# Altium footprint library Main Control Board.PcbLib: 11 footprints
Each footprint in its own frame and in the unit in brackets; x right, y up, seen from the top. Pads: shape width x height; smd on the part's side, far side on the other; paste and mask are expansions set on the pad; w line width, h text height; cw(c..) or ccw(c..) is an arc to the next point about the centre after c.
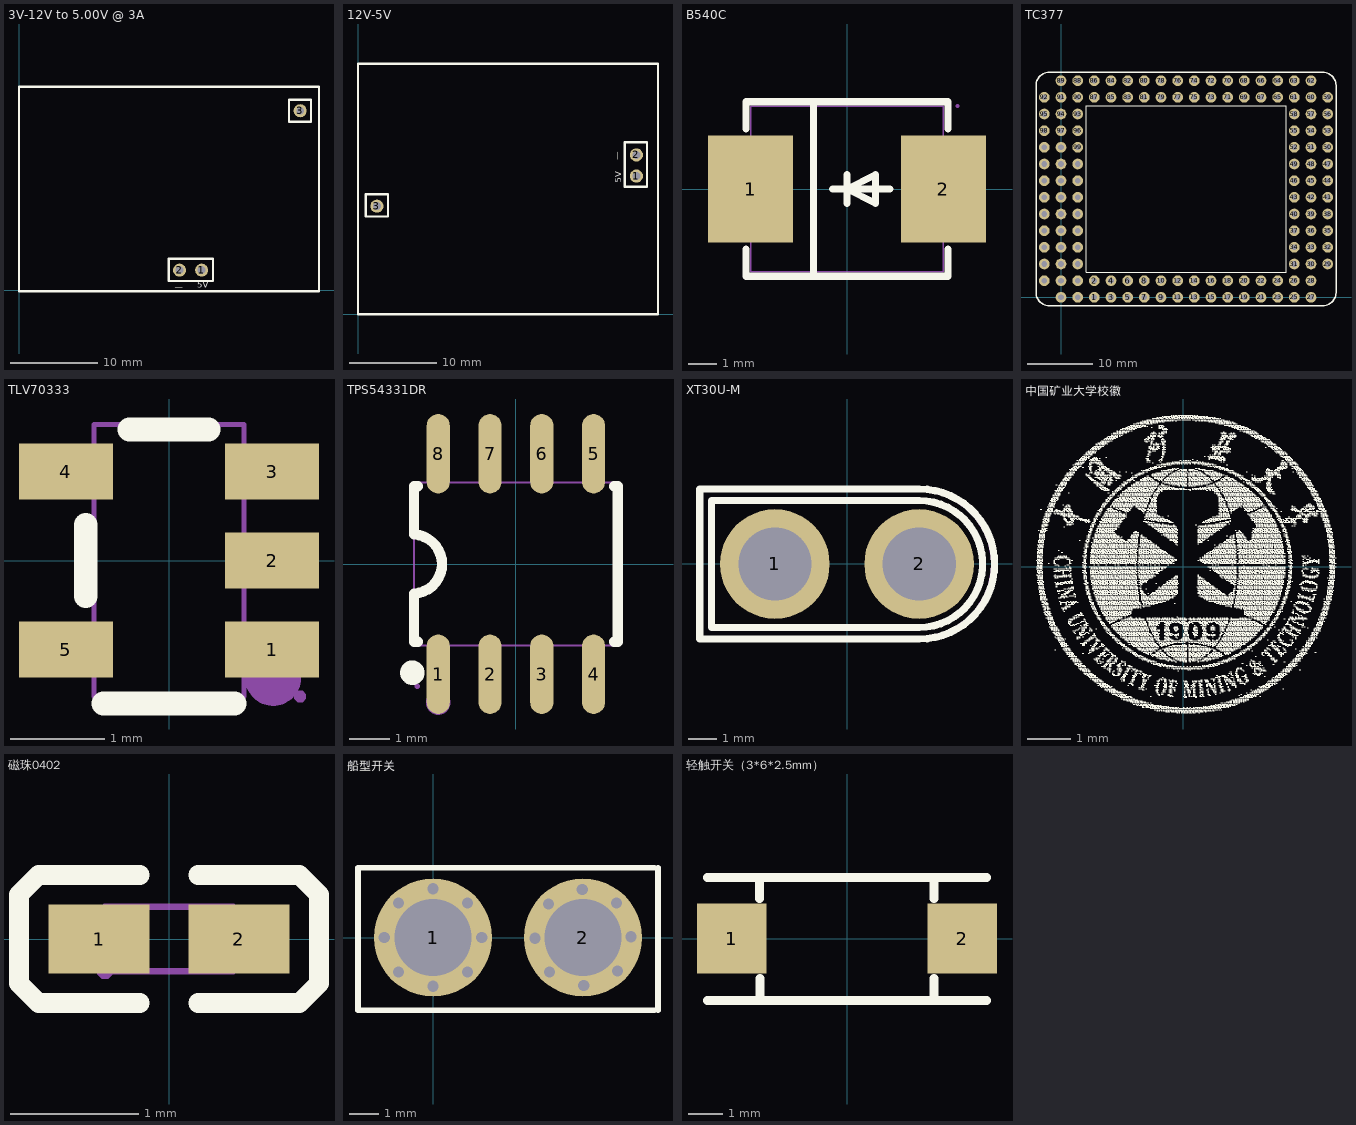
[diagram p0: the footprints below, top view; thin cyan lines are the x and y axes]

## 3V-12V to 5.00V @ 3A [mm]
pads (3):
  round 1.5 hole 0.9 mask+0.05: 1(20.955,2.286) 2(18.415,2.286) 3(32.258,20.574)
Top Overlay:
  lines w0.254: 0,-0.127 34.417,-0.127 34.417,23.317 0,23.317 0,-0.127 ; 17.17,1.041 22.25,1.041 22.25,3.581 17.17,3.581 17.17,1.041 ; 30.963,19.304 30.963,21.844 33.503,21.844 33.503,19.304 30.963,19.304
  text "—" at 18.847,0.711 h1.2
  text "5V" at 20.472,0.051 h1.2

## 12V-5V [mm]
pads (3):
  round 1.5 hole 0.9 mask+0.05: 1(31.75,15.748) 2(31.75,18.161) 3(2.159,12.319)
Top Overlay:
  lines w0.254: 0,0 0,28.55 34.214,28.55 34.214,0 0,0 ; 0.889,11.125 3.429,11.125 3.429,13.665 0.889,13.665 0.889,11.125 ; 30.429,14.529 30.429,19.609 32.969,19.609 32.969,14.529 30.429,14.529
  text "5V" at 30.226,14.986 h1.2
  text "—" at 30.099,17.526 h1.2

## B540C [mm]
pads (2):
  rect 3.03x3.82 smd paste+0 mask+0.051: 1(-3.435,0) 2(3.435,0)
Top Overlay:
  lines w0.254: -3.6,-2.141 -3.6,-3.11 3.6,-3.11 3.6,-2.141 ; -3.6,2.141 -3.6,3.11 3.6,3.11 3.6,2.141 ; -1.192,-3.11 -1.192,3.11 ; -0.508,0 1.524,0 ; 0,0.508 0,-0.508 0,0 ; 0,0 1.016,-0.508 1.016,0.508 0,0
Mechanical 6:
  region: -4.33,0.254 -2.552,0.254 -2.552,-0.254 -4.33,-0.254
  region: 3.181,-0.895 3.181,0.883 3.689,0.883 3.689,-0.895
  region: 2.54,0.254 4.318,0.254 4.318,-0.254 2.54,-0.254
Mechanical 15:
  region: 4.003,2.952 4.003,2.977 3.968,3.012 3.918,3.012 3.883,2.977 3.883,2.952 3.883,2.927 3.918,2.892 3.968,2.892 4.003,2.927 4.003,2.952
  region: 2.928,1.475 3.943,1.475 3.943,-1.475 2.928,-1.475
  region: -2.928,-1.475 -3.943,-1.475 -3.943,1.475 -2.928,1.475
  lines w0.051: -3.428,-2.952 3.428,-2.952 3.428,2.952 -3.428,2.952 -3.428,-2.952

## TC377 [mm] "单片机核心板封装库"
pads (127):
  round 1.65 hole 0.88: 1(5.08,0) 2(5.08,2.54) 3(7.62,0) 4(7.62,2.54) 5(10.16,0) 6(10.16,2.54) 7(12.7,0) 8(12.7,2.54) 9(15.24,0) 10(15.24,2.54) 11(17.78,0) 12(17.78,2.54) 13(20.32,0) 14(20.32,2.54) 15(22.86,0) 16(22.86,2.54) 17(25.4,0) 18(25.4,2.54) 19(27.94,0) 20(27.94,2.54) 21(30.48,0) 22(30.48,2.54) 23(33.02,0) 24(33.02,2.54) 25(35.56,0) 26(35.56,2.54) 27(38.1,0) 28(38.1,2.54) 30(38.1,5.08) 31(35.56,5.08) 33(38.1,7.62) 34(35.56,7.62) 36(38.1,10.16) 37(35.56,10.16) 39(38.1,12.7) 40(35.56,12.7) 42(38.1,15.24) 43(35.56,15.24) 45(38.1,17.78) 46(35.56,17.78) 48(38.1,20.32) 49(35.56,20.32) 51(38.1,22.86) 52(35.56,22.86) 54(38.1,25.4) 55(35.56,25.4) 57(38.1,27.94) 58(35.56,27.94) 60(38.1,30.48) 61(35.56,30.48) 62(38.1,33.02) 63(35.56,33.02) 64(33.02,33.02) 65(33.02,30.48) 66(30.48,33.02) 67(30.48,30.48) 68(27.94,33.02) 69(27.94,30.48) 70(25.4,33.02) 71(25.4,30.48) 72(22.86,33.02) 73(22.86,30.48) 74(20.32,33.02) 75(20.32,30.48) 76(17.78,33.02) 77(17.78,30.48) 78(15.24,33.02) 79(15.24,30.48) 80(12.7,33.02) 81(12.7,30.48) 82(10.16,33.02) 83(10.16,30.48) 84(7.62,33.02) 85(7.62,30.48) 86(5.08,33.02) 87(5.08,30.48) 88(2.54,33.02) 89(0,33.02) 90(2.54,30.48) 91(0,30.48) 93(2.54,27.94) 94(0,27.94) 96(2.54,25.4) 97(0,25.4) 99(2.54,22.86) 100(0,22.86) 102(2.54,20.32) 103(0,20.32) 105(2.54,17.78) 106(0,17.78) 108(2.54,15.24) 109(0,15.24) 111(2.54,12.7) 112(0,12.7) 114(2.54,10.16) 115(0,10.16) 117(2.54,7.62) 118(0,7.62) 120(2.54,5.08) 121(0,5.08) 123(2.54,2.54) 124(0,2.54) 126(2.54,0) 127(0,0)
  round 1.65 hole 0.88 mask+0.102: 29(40.64,5.08) 32(40.64,7.62) 35(40.64,10.16) 38(40.64,12.7) 41(40.64,15.24) 44(40.64,17.78) 47(40.64,20.32) 50(40.64,22.86) 53(40.64,25.4) 56(40.64,27.94) 59(40.64,30.48) 92(-2.54,30.48) 95(-2.54,27.94) 98(-2.54,25.4) 101(-2.54,22.86) 104(-2.54,20.32) 107(-2.54,17.78) 110(-2.54,15.24) 113(-2.54,12.7) 116(-2.54,10.16) 119(-2.54,7.62) 122(-2.54,5.08) 125(-2.54,2.54)
Top Overlay:
  lines w0.15: 3.81,3.8 34.29,3.8 34.29,29.185 3.9,29.185 ; 3.81,3.861 3.81,29.185
  lines w0.2: -3.81,0.596 -3.81,32.29 cw(c-1.81,32.29) -1.81,34.29 39.91,34.29 cw(c39.91,32.29) 41.91,32.29 41.91,0.635 ; -3.81,0.73 ccw(c-1.81,0.73) -1.81,-1.27 40.132,-1.27 ; 39.91,-1.27 ccw(c39.91,0.73) 41.91,0.73

## TLV70333 [mm]
pads (5):
  rect 1.001x0.599 smd mask+0.05: 1(1.1,-0.95) 2(1.1,0) 3(1.1,0.95) 4(-1.1,0.95) 5(-1.1,-0.95)
Top Overlay:
  lines w0.254: -0.889,-0.381 -0.889,0.381 ; -0.699,-1.524 0.699,-1.524 ; -0.422,1.397 0.422,1.397
Mechanical 6:
  circle w0.3: c1.11,-1.25 r0.15
Mechanical 15:
  region: 1.46,-1.45 1.46,-1.425 1.425,-1.389 1.374,-1.389 1.339,-1.425 1.339,-1.45 1.339,-1.476 1.374,-1.511 1.425,-1.511 1.46,-1.476 1.46,-1.45
  region: -0.95,-1.151 -1.4,-1.151 -1.4,-0.749 -0.95,-0.749
  region: -0.79,-1.151 -0.96,-1.151 -0.96,-0.749 -0.79,-0.749
  region: -0.95,0.749 -1.4,0.749 -1.4,1.151 -0.95,1.151
  region: -0.79,0.749 -0.96,0.749 -0.96,1.151 -0.79,1.151
  region: 1.4,-1.151 0.95,-1.151 0.95,-0.749 1.4,-0.749
  region: 0.96,-1.151 0.79,-1.151 0.79,-0.749 0.96,-0.749
  region: 1.4,0.749 0.95,0.749 0.95,1.151 1.4,1.151
  region: 0.96,0.749 0.79,0.749 0.79,1.151 0.96,1.151
  region: 1.4,-0.201 0.95,-0.201 0.95,0.201 1.4,0.201
  region: 0.96,-0.201 0.79,-0.201 0.79,0.201 0.96,0.201
  lines w0.051: -0.8,-1.45 0.8,-1.45 0.8,1.45 -0.8,1.45 -0.8,-1.45

## TPS54331DR [mil]
pads (8):
  oval 22.38x76.78 smd mask+2: 1(-75,-106.5) 2(-25,-106.5) 3(25,-106.5) 4(75,-106.5) 5(75,106.5) 6(25,106.5) 7(-25,106.5) 8(-75,106.5)
Top Overlay:
  circle w11.81: c-100,-105 r5.91
  lines w10: -98.43,-28.61 ccw(c-99.99,0) -98.23,28.59 ; -98.42,-28.61 -98.42,-59.05 -98.42,-75 -94.83,-75 ; -98.42,28.59 -98.42,59.05 -98.42,75 -94.83,75 ; 94.83,-75 98.42,-75 98.42,-59.05 98.42,59.05 98.42,75 94.83,75
Mechanical 6:
  circle w11.81: c-75,-133.86 r5.91
Mechanical 15:
  region: -92.92,-118.11 -92.92,-117.13 -94.3,-115.75 -96.26,-115.75 -97.64,-117.13 -97.64,-118.11 -97.64,-119.09 -96.26,-120.47 -94.3,-120.47 -92.92,-119.09 -92.92,-118.11
  region: 66.93,76.38 66.93,85.63 83.07,85.63 83.07,76.38
  region: 66.93,85.24 66.93,118.11 83.07,118.11 83.07,85.24
  region: 16.93,76.38 16.93,85.63 33.07,85.63 33.07,76.38
  region: 16.93,85.24 16.93,118.11 33.07,118.11 33.07,85.24
  region: -33.07,76.38 -33.07,85.63 -16.93,85.63 -16.93,76.38
  region: -33.07,85.24 -33.07,118.11 -16.93,118.11 -16.93,85.24
  region: -83.07,76.38 -83.07,85.63 -66.93,85.63 -66.93,76.38
  region: -83.07,85.24 -83.07,118.11 -66.93,118.11 -66.93,85.24
  region: 66.93,-85.63 66.93,-76.38 83.07,-76.38 83.07,-85.63
  region: 66.93,-118.11 66.93,-85.24 83.07,-85.24 83.07,-118.11
  region: 16.93,-85.63 16.93,-76.38 33.07,-76.38 33.07,-85.63
  region: 16.93,-118.11 16.93,-85.24 33.07,-85.24 33.07,-118.11
  region: -33.07,-85.63 -33.07,-76.38 -16.93,-76.38 -16.93,-85.63
  region: -33.07,-118.11 -33.07,-85.24 -16.93,-85.24 -16.93,-118.11
  region: -83.07,-85.63 -83.07,-76.38 -66.93,-76.38 -66.93,-85.63
  region: -83.07,-118.11 -83.07,-85.24 -66.93,-85.24 -66.93,-118.11
  lines w2: -98.42,-78.74 -98.42,78.74 98.42,78.74 98.42,-78.74 -98.42,-78.74

## XT30U-M [mm]
pads (2):
  round 3.8 hole 2.54 mask+0.05: 1(-2.5,0) 2(2.5,0)
Top Overlay:
  lines w0.254: 2.5,2.2 cw(c2.5,0) 2.501,-2.2 ; 2.5,2.2 2.5,2.2 ; 2.5,2.2 2,2.2 -4.7,2.2 -4.7,-2.2 2,-2.2 2.501,-2.2 ; 2.501,-2.2 2.501,-2.2 ; -5.1,-2.6 2.514,-2.6 ccw(c2.514,0) 2.514,2.6 -5.1,2.6 -5.1,-2.6
Mechanical 6:
  region: 2.5,2.7 -5.1,2.7 -5.2,2.6 -5.2,-2.6 -5.1,-2.7 2.5,-2.7 2.5,-2.5 -5,-2.5 -5,2.5 2.5,2.5
  region: 2.5,-2.5 2.745,-2.488 3.226,-2.392 3.678,-2.205 4.086,-1.933 4.432,-1.586 4.705,-1.178 4.892,-0.726 4.988,-0.245 5,0 5.2,0 5.2,-0.177 5.154,-0.528 5.062,-0.87 4.927,-1.197 4.75,-1.503 4.534,-1.784 4.284,-2.034 4.003,-2.25 3.697,-2.427 3.37,-2.562 3.028,-2.654 2.677,-2.7 2.5,-2.7
  region: 5,0 4.988,0.245 4.892,0.726 4.705,1.178 4.432,1.586 4.086,1.933 3.678,2.205 3.226,2.392 2.745,2.488 2.5,2.5 2.5,2.7 2.677,2.7 3.028,2.654 3.37,2.562 3.697,2.427 4.003,2.25 4.284,2.034 4.534,1.784 4.75,1.503 4.927,1.197 5.062,0.87 5.154,0.528 5.2,0.177 5.2,0
Mechanical 15:
  region: -1.5,0 -1.5,0.132 -1.568,0.386 -1.7,0.614 -1.886,0.8 -2.114,0.932 -2.368,1 -2.632,1 -2.886,0.932 -3.114,0.8 -3.3,0.614 -3.432,0.386 -3.5,0.132 -3.5,0 -3.5,-0.132 -3.432,-0.386 -3.3,-0.614 -3.114,-0.8 -2.886,-0.932 -2.632,-1 -2.368,-1 -2.114,-0.932 -1.886,-0.8 -1.7,-0.614 -1.568,-0.386 -1.5,-0.132 -1.5,0
  region: 3.5,0 3.5,0.132 3.432,0.386 3.3,0.614 3.114,0.8 2.886,0.932 2.632,1 2.368,1 2.114,0.932 1.886,0.8 1.7,0.614 1.568,0.386 1.5,0.132 1.5,0 1.5,-0.132 1.568,-0.386 1.7,-0.614 1.886,-0.8 2.114,-0.932 2.368,-1 2.632,-1 2.886,-0.932 3.114,-0.8 3.3,-0.614 3.432,-0.386 3.5,-0.132 3.5,0
  region: -5.04,-2.6 -5.04,-2.575 -5.075,-2.54 -5.125,-2.54 -5.16,-2.575 -5.16,-2.6 -5.16,-2.625 -5.125,-2.66 -5.075,-2.66 -5.04,-2.625 -5.04,-2.6
  lines w0.051: -5.1,-2.6 2.514,-2.6 ccw(c2.514,0) 5.114,0 ccw(c2.514,0) 2.514,2.6 -5.08,2.54 ccw(c-5.08,2.52) -5.1,2.52 -5.1,-2.6

## 中国矿业大学校徽 [mm]
Top Overlay:
  drawing of 8063 lines, arcs and shapes, not listed

## 磁珠0402 [mm]
pads (2):
  rect 0.79x0.54 smd mask+0.051: 1(-0.545,0) 2(0.545,0)
Top Overlay:
  lines w0.152: -0.226,-0.499 -1.016,-0.499 -1.169,-0.346 -1.169,0.346 -1.016,0.499 -0.226,0.499 ; 0.226,-0.499 1.016,-0.499 1.169,-0.346 1.169,0.346 1.016,0.499 0.226,0.499
Top Paste:
  region: 0.135,-0.086 0.135,0.086 0.404,0.27 0.9,0.27 0.94,0.23 0.94,-0.23 0.9,-0.27 0.404,-0.27
  region: -0.135,-0.086 -0.135,0.086 -0.404,0.27 -0.9,0.27 -0.94,0.23 -0.94,-0.23 -0.9,-0.27 -0.404,-0.27
Mechanical 15:
  region: -0.44,-0.25 -0.44,-0.225 -0.475,-0.19 -0.525,-0.19 -0.56,-0.225 -0.56,-0.25 -0.56,-0.275 -0.525,-0.31 -0.475,-0.31 -0.44,-0.275 -0.44,-0.25
  region: -0.5,-0.25 -0.5,0.25 -0.25,0.25 -0.25,-0.25
  region: 0.5,-0.25 0.5,0.25 0.25,0.25 0.25,-0.25
  lines w0.051: -0.5,-0.25 -0.5,0.25 0.5,0.25 0.5,-0.25 -0.5,-0.25

## 船型开关 [mm]
pads (2):
  round 4 hole 2.6: 1(0,0) 2(5.08,0)
via 1.167,1.167 diameter 0.508 hole 0.381
via 1.651,0 diameter 0.508 hole 0.381
via 1.167,-1.167 diameter 0.508 hole 0.381
via 0,-1.651 diameter 0.508 hole 0.381
via -1.167,-1.167 diameter 0.508 hole 0.381
via -1.651,0 diameter 0.508 hole 0.381
via -1.167,1.167 diameter 0.508 hole 0.381
via 0,1.651 diameter 0.508 hole 0.381
via 5.055,1.626 diameter 0.508 hole 0.381
via 5.055,1.626 diameter 0.508 hole 0.381
via 3.913,1.132 diameter 0.508 hole 0.381
via 3.454,-0.025 diameter 0.508 hole 0.381
via 3.948,-1.167 diameter 0.508 hole 0.381
via 5.105,-1.626 diameter 0.508 hole 0.381
via 6.247,-1.132 diameter 0.508 hole 0.381
via 6.706,0.025 diameter 0.508 hole 0.381
via 6.212,1.167 diameter 0.508 hole 0.381
Top Overlay:
  lines w0.2: 7.493,-2.464 5.766,-2.464 -0.076,-2.464 -2.54,-2.464 -2.54,2.362 7.493,2.362 ; 7.62,-2.464 7.62,-1.257 7.62,1.156 7.62,2.362

## 轻触开关（3*6*2.5mm） [mm]
pads (2):
  rect 2x2 smd: 1(-3.302,0) 2(3.302,0)
Top Overlay:
  lines w0.254: -4,-1.778 -2.54,-1.778 -2.512,-1.75 ; -4,1.75 -2.512,1.75 -2.512,1.143 ; -2.5,-1.143 -2.5,-1.778 2.5,-1.778 ; -2.5,1.75 2.5,1.75 ; 2.5,-1.143 2.5,-1.778 ; 2.5,1.143 2.5,1.75 ; 4,-1.778 2.5,-1.778 ; 4,1.75 2.5,1.75